# Altium footprint library Connectors_1,27mm.PcbLib: 35 footprints (part 1 of 3)
Each footprint in its own frame and in the unit in brackets; x right, y up, seen from the top. Pads: shape width x height; smd on the part's side, far side on the other; paste and mask are expansions set on the pad; w line width, h text height; cw(c..) or ccw(c..) is an arc to the next point about the centre after c.
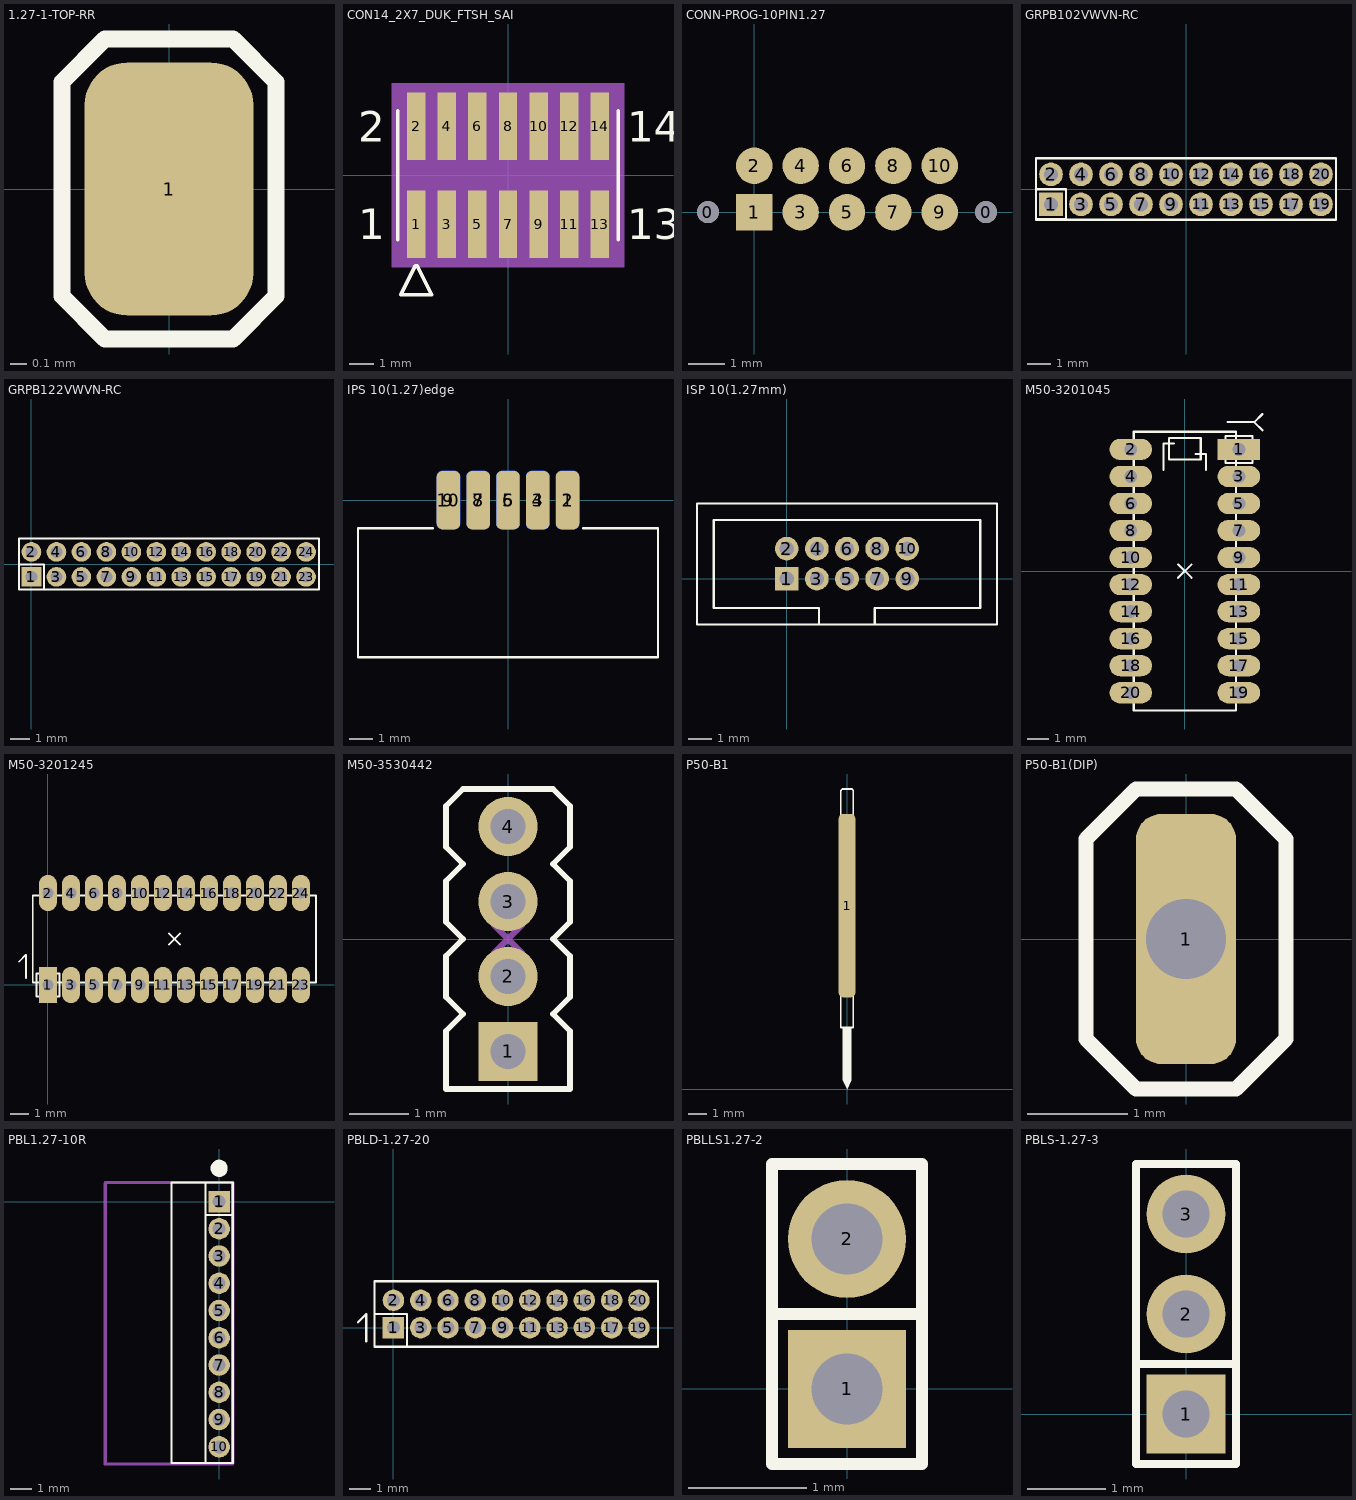
[diagram p0: the footprints below, top view; thin cyan lines are the x and y axes]

## 1.27-1-TOP-RR [mm] "1.27mm pin header connector with 2mm body height. 4..80 pins"
pads (1):
  rrect50% 1x1.5 smd: 1(0,0)
Top Overlay:
  lines w0.1: -0.635,-0.635 -0.635,0.635 -0.381,0.889 0.381,0.889 0.635,0.635 0.635,-0.635 0.381,-0.889 -0.381,-0.889 -0.635,-0.635

## CON14_2X7_DUK_FTSH_SAI [mil]
pads (14):
  rect 30x110 smd paste+0 mask+0: 1(-150,-80) 2(-150,80) 3(-100,-80) 4(-100,80) 5(-50,-80) 6(-50,80) 7(0,-80) 8(0,80) 9(50,-80) 10(50,80) 11(100,-80) 12(100,80) 13(150,-80) 14(150,80)
Top Overlay:
  region: -45,-107.5 -55,-107.5 -55,-122.5 -45,-122.5
  lines w6: -180,-105 -180,105 ; -151.5,-148.1 -175,-195.1 -125,-195.1 -148.5,-148.1 ; 180,-105 180,105
  text "1" at -245,-105 h50
  text "2" at -245,55 h50
  text "14" at 195,55 h50
  text "13" at 195,-105 h50
Mechanical 5:
  region: 190,-150 -190,-150 -190,150 190,150
Mechanical 13:
  lines w1: -175,-195.1 -150,-145.1 -125,-195.1 -175,-195.1 ; -175,-100 175,-100 175,100 -175,100 -175,-100
  text "14" at 195,55 h50
  text "13" at 195,-105 h50
  text "2" at -245,55 h50
  text "1" at -245,-105 h50
Mechanical 15:
  region: -158,-100 -175,-100 -175,100 -158,100 -158,135 158,135 158,100 175,100 175,-100 158,-100 158,-135 -158,-135
  region: 175,-100 -175,-100 -175,100 175,100
  lines w6: -175,-100 -175,100 -158,100 -158,135 158,135 158,100 175,100 175,-100 158,-100 158,-135 -158,-135 -158,-100 -175,-100
3D body "CON14_2X7_DUK_FTSH_SAI.step": height 235, standoff 0, extent -175,-122.99 175,122.99

## CONN-PROG-10PIN1.27 [mm]
pads (12):
  round 0.6 hole 0.6 unplated: 0(-1.27,0) 0(6.35,0)
  rect 1x1 smd: 1(0,0)
  round 1 smd: 2(0,1.27) 3(1.27,0) 4(1.27,1.27) 5(2.54,0) 6(2.54,1.27) 7(3.81,0) 8(3.81,1.27) 9(5.08,0) 10(5.08,1.27)

## GRPB102VWVN-RC [mm] "1.27mm pin header connector with 2mm body height. 4..80 pins"
pads (20):
  rect 1x1 hole 0.6: 1(-5.715,-0.635)
  round 1 hole 0.6: 2(-5.715,0.635) 3(-4.445,-0.635) 4(-4.445,0.635) 5(-3.175,-0.635) 6(-3.175,0.635) 7(-1.905,-0.635) 8(-1.905,0.635) 9(-0.635,-0.635) 10(-0.635,0.635) 11(0.635,-0.635) 12(0.635,0.635) 13(1.905,-0.635) 14(1.905,0.635) 15(3.175,-0.635) 16(3.175,0.635) 17(4.445,-0.635) 18(4.445,0.635) 19(5.715,-0.635) 20(5.715,0.635)
Top Overlay:
  lines w0.1: -6.35,-1.285 6.35,-1.285 6.35,1.321 -6.35,1.321 -6.35,0 ; -6.35,0 -6.35,-1.27 -5.08,-1.27 -5.08,0 -6.35,0
3D body "2002111100020t1lf.stp": height 2.35, standoff -5.5, extent -6.35,-1.7 6.35,1.7

## GRPB122VWVN-RC [mm]
pads (24):
  rect 1x1 hole 0.6: 1(0,-0.635)
  round 1 hole 0.6: 2(0,0.635) 3(1.27,-0.635) 4(1.27,0.635) 5(2.54,-0.635) 6(2.54,0.635) 7(3.81,-0.635) 8(3.81,0.635) 9(5.08,-0.635) 10(5.08,0.635) 11(6.35,-0.635) 12(6.35,0.635) 13(7.62,-0.635) 14(7.62,0.635) 15(8.89,-0.635) 16(8.89,0.635) 17(10.16,-0.635) 18(10.16,0.635) 19(11.43,-0.635) 20(11.43,0.635) 21(12.7,-0.635) 22(12.7,0.635) 23(13.97,-0.635) 24(13.97,0.635)
Top Overlay:
  lines w0.1: -0.635,-1.285 14.63,-1.285 14.63,1.321 -0.635,1.321 -0.635,0 ; -0.635,0 0.635,0 0.635,-1.27 -0.635,-1.27 -0.635,0
3D body "2002111100024t4lf.stp": height 5.5, standoff -2.35, extent -0.635,-1.7 14.605,1.7

## IPS 10(1.27)edge [mm]
pads (10):
  rrect50% 1x2.5 smd: 1(2.54,0) 3(1.27,0) 5(0,0) 7(-1.27,0) 9(-2.54,0)
  rrect50% 1x2.5 smd far side: 2(2.54,0) 4(1.27,0) 6(0,0) 8(-1.27,0) 10(-2.54,0)
Top Overlay:
  lines w0.1: -3.2,-1.2 -6.4,-1.2 -6.4,-6.7 6.4,-6.7 6.4,-1.2 3.2,-1.2
3D body "User Library-CNC Tech 3221-10-0100-00.STEP": height 2.45, standoff -2.75, extent -6.325,-6.65 6.325,0.85

## ISP 10(1.27mm) [mm]
pads (10):
  rect 1x1 hole 0.6: 1(0,0)
  round 1 hole 0.6: 2(0,1.27) 3(1.27,0) 4(1.27,1.27) 5(2.54,0) 6(2.54,1.27) 7(3.81,0) 8(3.81,1.27) 9(5.08,0) 10(5.08,1.27)
Top Overlay:
  lines w0.1: 1.358,-1.93 1.358,-1.23 -3.063,-1.23 -3.074,-1.219 -3.074,2.475 8.164,2.475 8.164,-1.23 3.708,-1.23 3.708,-1.93 ; -3.785,-1.93 -3.785,3.175 8.865,3.175 8.865,-1.93 -3.785,-1.93
3D body "User Library-CNC Tech 3221-10-0100-00.STEP": height 5.4, standoff -2.1, extent -3.785,-2.015 8.865,3.185

## M50-3201045 [mm]
height 3.46
pads (20):
  rect 2x1 hole 0.6: 1(2.54,5.715)
  oval 2x1 hole 0.6: 2(-2.54,5.715) 3(2.54,4.445) 4(-2.54,4.445) 5(2.54,3.175) 6(-2.54,3.175) 7(2.54,1.905) 8(-2.54,1.905) 9(2.54,0.635) 10(-2.54,0.635) 11(2.54,-0.635) 12(-2.54,-0.635) 13(2.54,-1.905) 14(-2.54,-1.905) 15(2.54,-3.175) 16(-2.54,-3.175) 17(2.54,-4.445) 18(-2.54,-4.445) 19(2.54,-5.715) 20(-2.54,-5.715)
Top Overlay:
  lines w0.1: -1,4.75 -1,6 -0.5,6 ; -0.318,-0.318 0.318,0.318 ; -0.318,0.318 0.318,-0.318 ; 0.5,5.5 1,5.5 1,4.75 ; 2,7 3.27,7 ; 3.651,6.619 3.27,7 ; 3.651,7.381 3.27,7 ; -2.4,-6.55 -2.4,6.55 2.4,6.55 2.4,-6.55 -2.4,-6.55 ; -0.75,5.25 0.75,5.25 0.75,6.25 -0.75,6.25 -0.75,5.25 ; 1.905,5.08 3.175,5.08 3.175,6.35 1.905,6.35 1.905,5.08

## M50-3201245 [mm]
height 3.46
pads (24):
  rect 1x2 hole 0.6: 1(0,0)
  oval 1x2 hole 0.6: 2(0,5.08) 3(1.27,0) 4(1.27,5.08) 5(2.54,0) 6(2.54,5.08) 7(3.81,0) 8(3.81,5.08) 9(5.08,0) 10(5.08,5.08) 11(6.35,0) 12(6.35,5.08) 13(7.62,0) 14(7.62,5.08) 15(8.89,0) 16(8.89,5.08) 17(10.16,0) 18(10.16,5.08) 19(11.43,0) 20(11.43,5.08) 21(12.7,0) 22(12.7,5.08) 23(13.97,0) 24(13.97,5.08)
Top Overlay:
  lines w0.1: -1.597,1.283 -1.216,1.664 -1.216,0.394 ; 6.667,2.222 7.302,2.857 ; 6.667,2.857 7.302,2.222 ; -0.835,0.14 14.805,0.14 14.805,4.94 -0.835,4.94 -0.835,0.14 ; -0.635,-0.635 0.635,-0.635 0.635,0.635 -0.635,0.635 -0.635,-0.635

## M50-3530442 [mm]
pads (4):
  rect 1x1 hole 0.6: 1(0,-1.905)
  round 1 hole 0.6: 2(0,-0.635) 3(0,0.635) 4(0,1.905)
Top Overlay:
  lines w0.1: -1.05,0.288 -0.762,0 -1.05,-0.288 -1.05,-0.982 -0.762,-1.27 -1.05,-1.558 -1.05,-2.54 1.05,-2.54 1.05,-1.558 0.762,-1.27 1.05,-0.982 1.05,-0.288 0.762,0 1.05,0.288 1.05,0.982 0.762,1.27 1.05,1.558 1.05,2.252 0.762,2.54 -0.762,2.54 -1.05,2.252 -1.05,1.558 -0.762,1.27 -1.05,0.982 ; -1.05,0.288 -1.05,0.982 ; -1.05,0.288 -1.05,0.982
Mechanical 15:
  lines w0.1: -0.25,-0.25 0.25,0.25 ; -0.25,0.25 0.25,-0.25
3D body "M50-3530442.STEP": height 3.3, standoff -3, extent -1.05,-2.54 1.05,2.54

## P50-B1 [mm]
pads (1):
  rrect50% 0.9x10 smd: 1(0,10)
Top Overlay:
  region: 0,0 -0.241,0.483 -0.241,3.353 0.241,3.353 0.241,0.483
  lines w0.1: -0.34,3.353 0.34,3.353 0.34,16.285 0.272,16.353 -0.251,16.353 -0.34,16.263 -0.34,3.353
3D body: height 0.5, standoff 0, extent -0.24,0 0.24,3.31
3D body: height 0.68, standoff 0, extent -0.39,3.31 0.39,16.4

## P50-B1(DIP) [mm]
pads (1):
  rrect50% 1x2.5 hole 0.8: 1(0,0)
Top Overlay:
  lines w0.15: -1,-1 -1,1 -0.5,1.5 0.5,1.5 1,1 1,-1 0.5,-1.5 -0.5,-1.5 -1,-1
3D body: height 9, standoff -4, extent -0.337,-0.339 0.34,0.34
3D body: height -3.65, standoff -7, extent -0.248,-0.249 0.25,0.25

## PBL1.27-10R [mm]
pads (10):
  rect 1x1 hole 0.6: 1(0,0)
  round 1 hole 0.6: 2(0,-1.27) 3(0,-2.54) 4(0,-3.81) 5(0,-5.08) 6(0,-6.35) 7(0,-7.62) 8(0,-8.89) 9(0,-10.16) 10(0,-11.43)
Top Overlay:
  lines w0.1: -0.635,-12.192 -0.635,0.851 ; -0.635,-0.635 0.635,-0.635 ; -2.223,-12.192 0.635,-12.192 0.635,0.889 -2.223,0.889 -2.223,-12.192
  lines w0.4: 0.198,1.578 ccw(c0,1.549) 0.2,1.549
Mechanical 1:
  lines w0.15: -5.309,-12.23 ccw(c-5.309,-12.23) -5.309,-12.23 ; -5.309,-12.23 -5.309,0.851 cw(c-5.271,0.851) -5.271,0.889 0.635,0.889 0.635,-12.192 cw(c0.597,-12.192) 0.597,-12.23 -5.309,-12.23
3D body "851-43-010-20-001000.STEP": height 2.3, standoff -2.91, extent -5.31,-12.229 0.23,0.851

## PBLD-1.27-20 [mm]
pads (20):
  rect 1x1 hole 0.6: 1(0,0)
  round 1 hole 0.6: 2(0,1.27) 3(1.27,0) 4(1.27,1.27) 5(2.54,0) 6(2.54,1.27) 7(3.81,0) 8(3.81,1.27) 9(5.08,0) 10(5.08,1.27) 11(6.35,0) 12(6.35,1.27) 13(7.62,0) 14(7.62,1.27) 15(8.89,0) 16(8.89,1.27) 17(10.16,0) 18(10.16,1.27) 19(11.43,0) 20(11.43,1.27)
Top Overlay:
  lines w0.1: -1.651,0.254 -1.27,0.635 -1.27,-0.635 ; -0.889,0.635 0.635,0.635 0.635,-0.889 ; -0.889,-0.889 -0.889,2.159 12.319,2.159 12.319,-0.889 -0.889,-0.889
3D body: height 0.25, standoff 0, extent -0.841,-0.865 12.319,2.135

## PBLLS1.27-2 [mm] "1.27mm pin header connector with 2mm body height. 4..80 pins"
pads (2):
  rect 1x1 hole 0.6: 1(0,0)
  round 1 hole 0.6: 2(0,1.27)
Top Overlay:
  lines w0.1: -0.635,0.254 -0.635,1.905 0.635,1.905 0.635,0.254 ; -0.635,-0.635 0.635,-0.635 0.635,0.635 -0.635,0.635 -0.635,-0.635

## PBLS-1.27-3 [mm]
pads (3):
  rect 1x1 hole 0.6: 1(0,0)
  round 1 hole 0.6: 2(0,1.27) 3(0,2.54)
Top Overlay:
  lines w0.1: -0.635,0.635 0.635,0.635 0.635,-0.635 -0.635,-0.635 -0.635,3.175 0.635,3.175 0.635,1.905 0.635,0.254